# Altium schematic symbol library tianxiaohua_Schlib.SchLib: 133 symbols
Pins are listed as number, name and electrical type; pins without a type are passive.

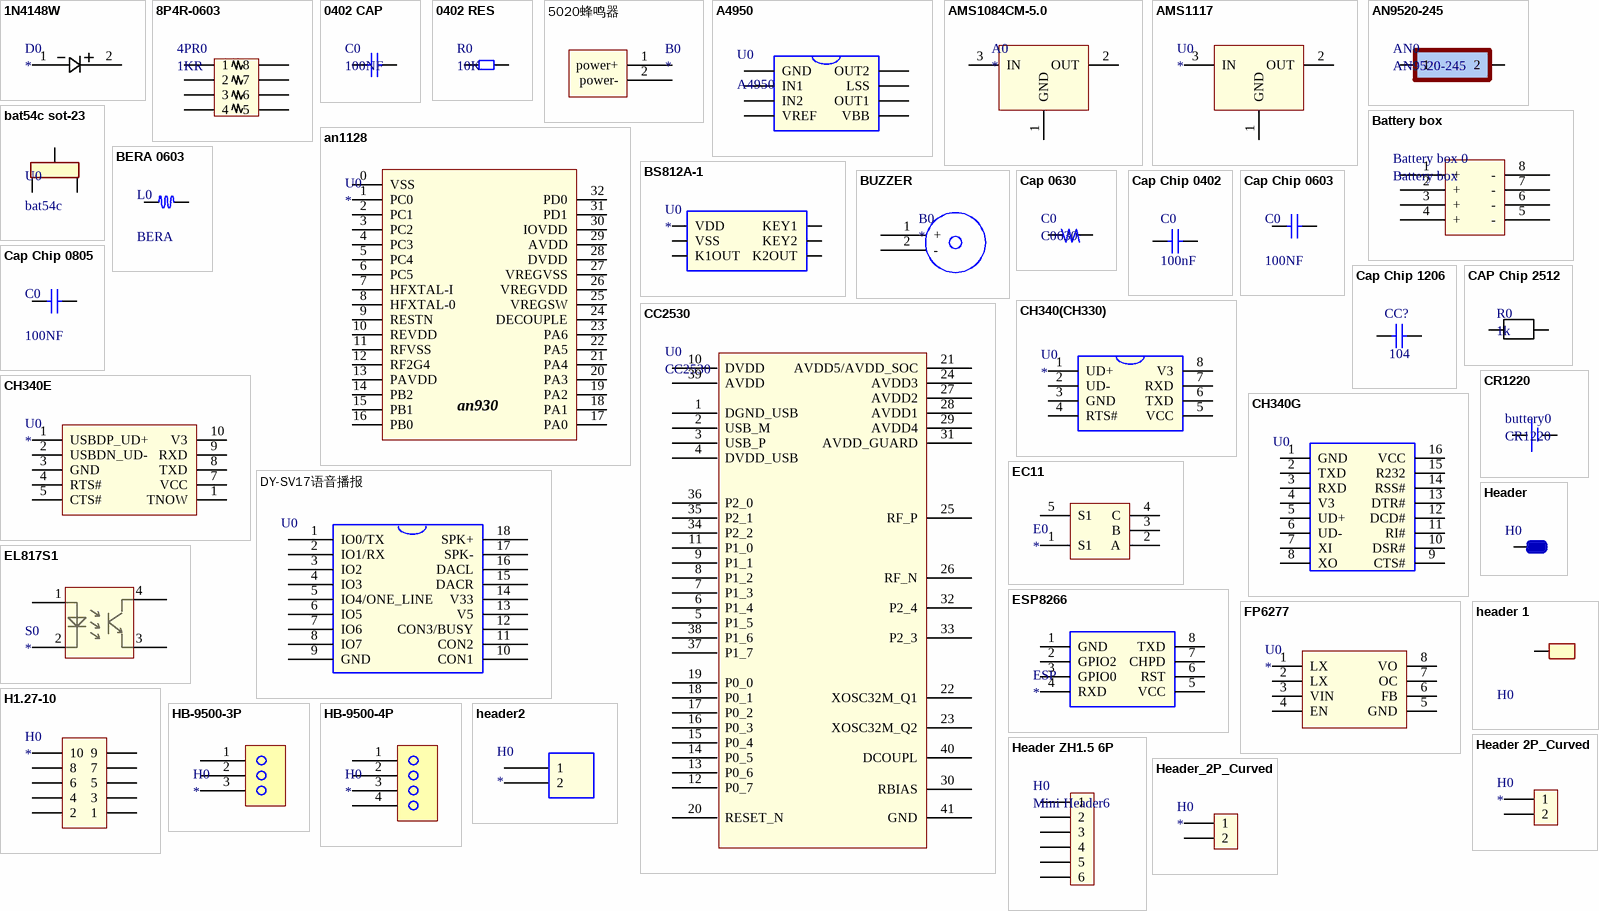
[diagram p0: symbols 1N4148W to Header_2P_Curved]

## 1N4148W
designator D0
开关二极管 贴片 1N4148W 1206/SOD-123 丝印T4 150MA 75V
footprint SOD-123
pins: 1, 2

## 8P4R-0603
designator 4PR0, comment 1KR
footprint 8P4R-0603
pins: 1, 2, 3, 4, 5, 6, 7, 8

## 0402 CAP
designator C0, comment 100NF
footprint 0402Capacitor
pins: 1, 2

## 0402 RES
designator R0, comment 10K
footprint 0402resistor
pins: 1, 2

## 5020蜂鸣器
designator B0
蜂鸣器，贴片封装，长宽5.2mm
footprint 5020蜂鸣器 (蜂鸣器 贴片封装)
footprint Model Name (Footprint not found)
pins: 1 power+, 2 power-

## A4950
designator U0
footprint SOIC-8
pins: 1 GND, 2 IN1, 3 IN2, 4 VREF, 5 VBB, 6 OUT1, 7 LSS, 8 OUT2

## AMS1084CM-5.0
designator A0
footprint TO-263-3
pins: 1 GND, 2 OUT, 3 IN

## AMS1117
designator U0
降压3.3V
footprint SOT-223
pins: 1 GND, 2 OUT, 3 IN

## an1128
designator U0
迷你封装蓝牙芯片
footprint QFN32-4*4
pins: 0 VSS, 1 PC0, 2 PC1, 3 PC2, 4 PC3, 5 PC4, 6 PC5, 7 HFXTAL-I, 8 HFXTAL-0, 9 RESTN, 10 REVDD, 11 RFVSS, 12 RF2G4, 13 PAVDD, 14 PB2, 15 PB1, 16 PB0, 17 PA0, 18 PA1, 19 PA2, 20 PA3, 21 PA4, 22 PA5, 23 PA6, 24 DECOUPLE, 25 VREGSW, 26 VREGVDD, 27 VREGVSS, 28 DVDD, 29 AVDD, 30 IOVDD, 31 PD1, 32 PD0
text: an930

## AN9520-245
designator AN0
2.4G全向天线 蓝牙天线 陶瓷贴片 WIFI内置
footprint AN9520-245
footprint AN-5120
pins: 1, 2

## bat54c sot-23
designator U0, comment bat54c
footprint SOT-23 SI2302
pins: 1, 2, 3

## Battery box
designator Battery box 0
footprint Battery box  4 (可以容纳4节18650电池)
pins: 1 +, 2 +, 3 +, 4 +, 5 -, 6 -, 7 -, 8 -

## BERA 0603
designator L0, comment BERA
磁珠电感; Published: 8-Jun-2000; Revision: July-2002: Re-released for DXP Platform.; Publisher: Altium Limited
footprint BEAD (0R电感)
pins: 1, 2

## BS812A-1
designator U0
触摸按键 两路 SOP23-6封装极简电路
footprint SOT23-6
pins: 1 VDD, 2 VSS, 3 K1OUT, 4 K2OUT, 5 KEY2, 6 KEY1

## BUZZER
designator B0
蜂鸣器 0905 直径9毫米，高度5毫米
footprint Buzzer (蜂鸣器 型号0905 直径9毫米，高度5.5毫米)
pins: 1 +, 2 -

## Cap 0630
designator C0, comment C0630
贴片大电感长7宽6.6
footprint 0630
pins: 1, 2

## Cap Chip 0402
designator C0, comment 100nF
0402封装电容; Published: 8-Jun-2000; Revision: July-2002: Re-released for DXP Platform.; Publisher: Altium Limited
footprint CC1005-0402
pins: 1, 2

## Cap Chip 0603
designator C0, comment 100NF
0603封装的电容; Published: 8-Jun-2000; Revision: July-2002: Re-released for DXP Platform.; Publisher: Altium Limited
footprint CC1608-0603
pins: 1, 2

## Cap Chip 0805
designator C0, comment 100NF
0805封装的电容; Published: 8-Jun-2000; Revision: July-2002: Re-released for DXP Platform.; Publisher: Altium Limited
footprint CC2012-0805
pins: 1, 2

## Cap Chip 1206
designator CC?  value 104  (hidden comment: Cap Chip 1206)
Polarized Capacitor (Radial); Published: 8-Jun-2000; Revision: July-2002: Re-released for DXP Platform.; Publisher: Altium Limited
footprint CC3216-1206
pins: 1, 2

## CAP Chip 2512
designator R0, comment 1k
footprint Cap Chip 2512
pins: 1, 2

## CC2530
designator U0
Zigbee
footprint QLP40 (Reflow)
pins: 1 DGND_USB, 2 USB_M, 3 USB_P, 4 DVDD_USB, 5 P1_5, 6 P1_4, 7 P1_3, 8 P1_2, 9 P1_1, 10 DVDD, 11 P1_0, 12 P0_7, 13 P0_6, 14 P0_5, 15 P0_4, 16 P0_3, 17 P0_2, 18 P0_1, 19 P0_0, 20 RESET_N, 21 AVDD5/AVDD_SOC, 22 XOSC32M_Q1, 23 XOSC32M_Q2, 24 AVDD3, 25 RF_P, 26 RF_N, 27 AVDD2, 28 AVDD1, 29 AVDD4, 30 RBIAS, 31  AVDD_GUARD, 32 P2_4, 33 P2_3, 34 P2_2, 35 P2_1, 36 P2_0, 37 P1_7, 38 P1_6, 39 AVDD, 40 DCOUPL, 41 GND

## CH340(CH330)
designator U0
USB转串口rs232的芯片，内置晶振
footprint SOP8
pins: 1 UD+, 2 UD-, 3 GND, 4 RTS#, 5 VCC, 6 TXD, 7 RXD, 8 V3

## CH340E
designator U0
usd转串口芯片 MSOP10封装
footprint MSOP-10
pins: 1 USBDP_UD+, 1 TNOW, 2 USBDN_UD-, 3 GND, 4 RTS#, 5 CTS#, 7 VCC, 8 TXD, 9 RXD, 10 V3

## CH340G
designator U0  (value not drawn)
串口转USB
footprint SOP16
pins: 1 GND, 2 TXD, 3 RXD, 4 V3, 5 UD+, 6 UD-, 7 XI, 8 XO, 9 CTS#, 10 DSR#, 11 RI#, 12 DCD#, 13 DTR#, 14 RSS#, 15 R232, 16 VCC

## CR1220
designator buttery0
纽扣电池
footprint CR1220-buttery
pins: 1, 2

## DY-SV17语音播报
designator U0
footprint DY-SV17F
pins: 1 IO0/TX, 2 IO1/RX, 3 IO2, 4 IO3, 5 IO4/ONE_LINE, 6 IO5, 7 IO6, 8 IO7, 9 GND, 10 CON1, 11 CON2, 12 CON3/BUSY, 13 V5, 14 V33, 15 DACR, 16 DACL, 17 SPK-, 18 SPK+

## EC11
designator E0
旋转编码器 开关/EC11/数字电位器
footprint EC11
footprint Model Name (Footprint not found)
pins: 1 S1, 2 A, 3 B, 4 C, 5 S1

## EL817S1
designator S0
光耦隔离 兼容PC817
footprint EL817S1
pins: 1, 2, 3, 4

## ESP8266
designator ESP
footprint DIP8
pins: 1 GND, 2 GPIO2, 3 GPIO0, 4 RXD, 5 VCC, 6 RST, 7 CHPD, 8 TXD

## FP6277
designator U0
3A升压IC
footprint SOP8L
pins: 1 LX "电源输出", 2 LX, 3 VIN, 4 EN, 5 GND, 6 FB, 7 OC, 8 VO

## H1.27-10
designator H0
间距为1.27的排针
footprint H1.27
pins: 1, 2, 3, 4, 5, 6, 7, 8, 9, 10

## HB-9500-3P
designator H0
栅栏式接线端子 带盖 9.5MM
footprint HB-9500 9.5MM
pins: 1, 2, 3

## HB-9500-4P
designator H0
栅栏式接线端子 带盖 9.5MM
footprint HB-9500-4P 9.5MM (接线端子，间距9.4毫米，4个接口)
pins: 1, 2, 3, 4

## Header
designator H0  (value not drawn)
footprint Header (设置其他的引出端口)
pins: 1

## header2
designator H0
footprint header2
pins: 1, 2

## header 1
designator H0, comment H0  (value not drawn)
footprint header 1
pins: 1

## Header 2P_Curved
designator H0
弯的2P排针
footprint Header_2_54_2PW (弯的排针)
pins: 1, 2

## Header ZH1.5 6P
designator H0, comment Mini Header6
footprint ZH 1.5
pins: 1, 2, 3, 4, 5, 6

## Header_2P_Curved
designator H0
弯的2P排针
footprint Header_2_54_2PW (弯的排针)
pins: 1, 2

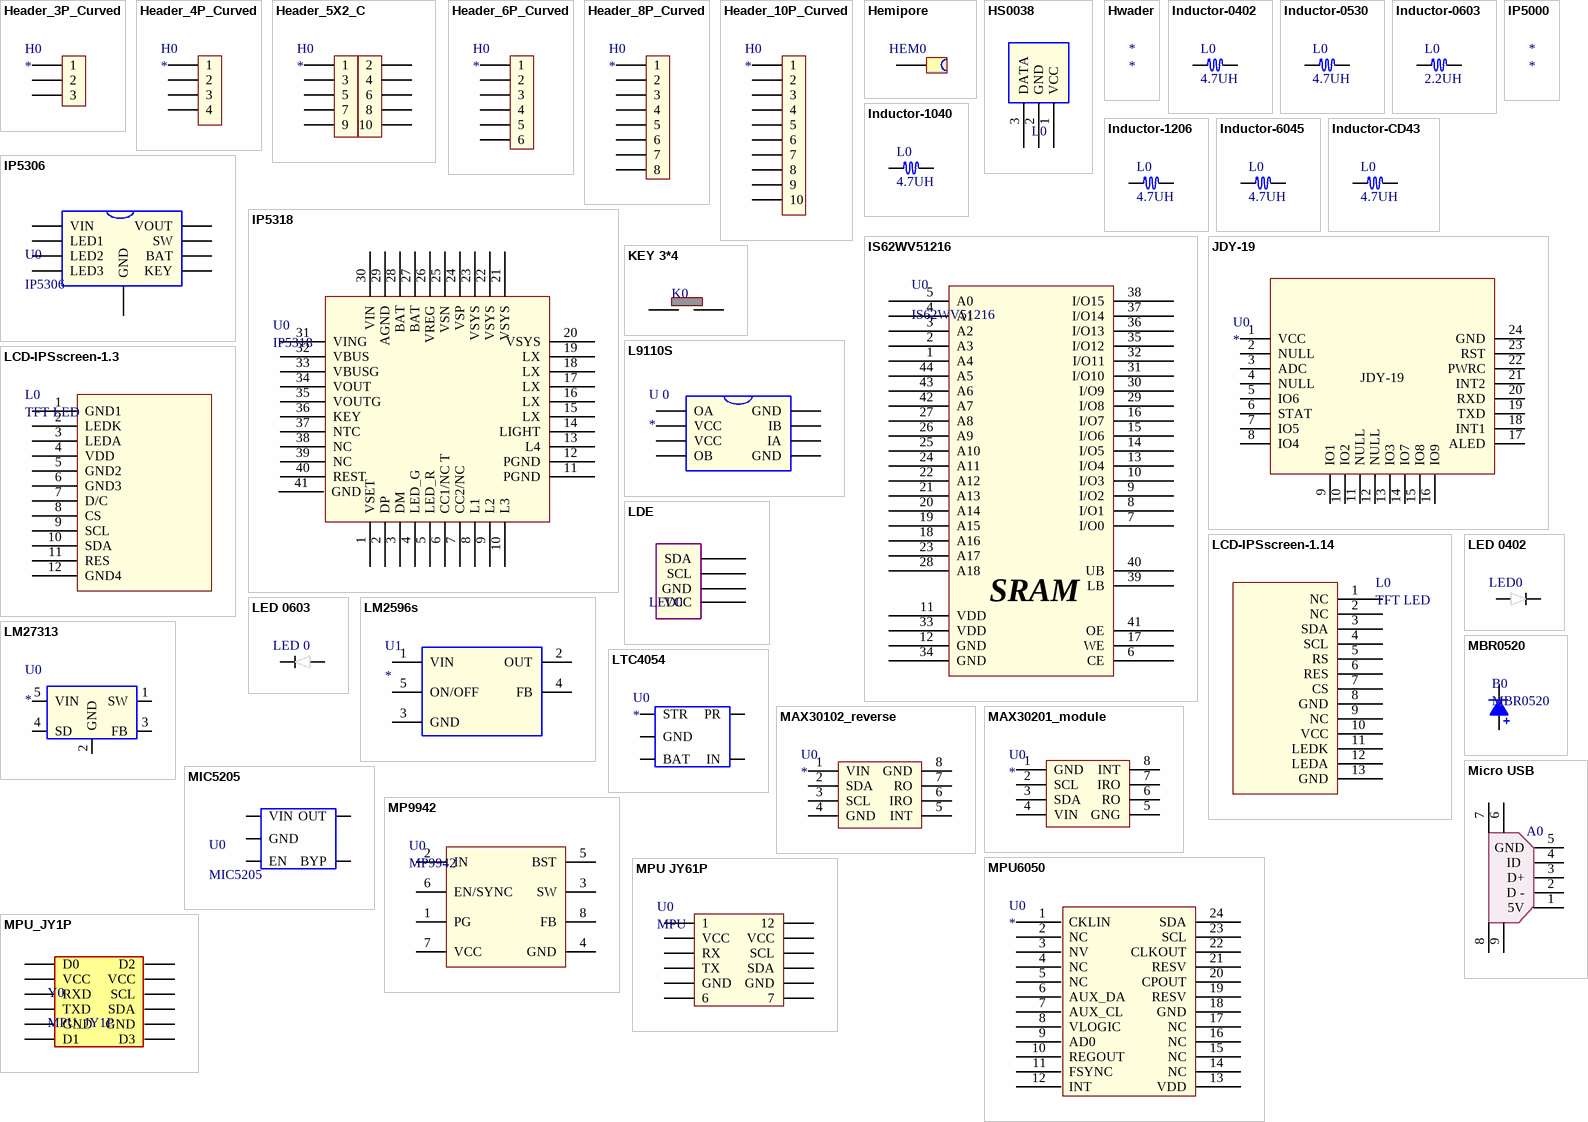
[diagram p1: symbols Header_3P_Curved to MPU_JY1P]

## Header_3P_Curved
designator H0
弯的3P排针
footprint Header_2_54_3PW (3P弯针)
pins: 1, 2, 3

## Header_4P_Curved
designator H0
弯的4P排针
footprint Header_2_54_4PW (3P弯针)
pins: 1, 2, 3, 4

## Header_5X2_C
designator H0
双排2*5弯排针
footprint Header_10_for_zigbee
pins: 1, 2, 3, 4, 5, 6, 7, 8, 9, 10

## Header_6P_Curved
designator H0
弯的6P排针
footprint Header_2_54_6PW (6P弯针)
pins: 1, 2, 3, 4, 5, 6

## Header_8P_Curved
designator H0
弯的8P排针
footprint Header_2_54_8PW (弯的排针)
pins: 1, 2, 3, 4, 5, 6, 7, 8

## Header_10P_Curved
designator H0
弯的10P排针
footprint Header_2_54_8PW (弯的排针)
pins: 1, 2, 3, 4, 5, 6, 7, 8, 9, 10

## Hemipore
designator HEM0  (value not drawn)
半孔（邮票孔）
footprint Hemipore (半孔(邮票孔))
footprint Hemipore-N (半孔(邮票孔))
pins: 1

## HS0038
designator L0  (value not drawn)
红外线接收传感器
pins: 1 VCC, 2 GND, 3 DATA

## Hwader
designator *

## Inductor-0402
designator L0, comment 4.7UH
0402封装的电感
footprint Inductor-0402
pins: 1, 2

## Inductor-0530
designator L0, comment 4.7UH
0530一体成型贴片功率电感
footprint 0530 (电感)
pins: 1, 2

## Inductor-0603
designator L0, comment 2.2UH
贴片电感 0603封装
footprint Inductor-0603
pins: 1, 2

## Inductor-1040
designator L0, comment 4.7UH
1040封装 一体成型 贴片 功率电感
footprint Inductor-1040
pins: 1, 2

## Inductor-1206
designator L0, comment 4.7UH
贴片电感 1206封装
footprint INDUCTOR-1206 (电感)
pins: 1, 2

## Inductor-6045
designator L0, comment 4.7UH
6045封装 线绕SMD功率电感
footprint Inductor-6045 (电感)
pins: 1, 2

## Inductor-CD43 
designator L0, comment 4.7UH
CD43 绕线片式功率电感
footprint CD43
pins: 1, 2

## IP5000
designator *

## IP5306
designator U0
2A的锂电池充电ic,同时具有升压5V输出的功能
footprint ESOP8
pins: 1 VIN, 2 LED1, 3 LED2, 4 LED3, 5 KEY, 6 BAT, 7 SW, 8 VOUT, 9 GND

## IP5318
designator U0
4.8A 充电、18W 放电、集成输入输出快充功能移动电源 SOC
footprint QFN40
pins: 1 VSET, 2 DP, 3 DM, 4 LED_G, 5 LED_R, 6 CC1/NC T, 7 CC2/NC, 8 L1, 9 L2, 10 L3, 11 PGND, 12 PGND, 13 L4, 14 LIGHT, 15 LX, 16 LX, 17 LX, 18 LX, 19 LX, 20 VSYS, 21 VSYS, 22 VSYS, 23 VSYS, 24 VSP, 25 VSN, 26 VREG, 27 BAT, 28 BAT, 29 AGND, 30 VIN, 31 VING, 32 VBUS, 33 VBUSG, 34 VOUT, 35 VOUTG, 36 KEY, 37 NTC, 38 NC, 39 NC, 40 REST, 41 GND

## IS62WV51216
designator U0
SRAM
footprint TSOP44_M
footprint TSOP-l
pins: 1 A4, 2 A3, 3 A2, 4 A1, 5 A0, 6 CE, 7 I/O0, 8 I/O1, 9 I/O2, 10 I/O3, 11 VDD, 12 GND, 13 I/O4, 14 I/O5, 15 I/O6, 16 I/O7, 17 WE, 18 A16, 19 A15, 20 A14, 21 A13, 22 A12, 23 A17, 24 A11, 25 A10, 26 A9, 27 A8, 28 A18, 29 I/O8, 30 I/O9, 31 I/O10, 32 I/O11, 33 VDD, 34 GND, 35 I/O12, 36 I/O13, 37 I/O14, 38 I/O15, 39 LB, 40 UB, 41 OE, 42 A7, 43 A6, 44 A5

## JDY-19
designator U0
超低功耗蓝牙 4.2 BLE 模块
footprint JDY-19
pins: 1 VCC, 2 NULL, 3 ADC, 4 NULL, 5 IO6, 6 STAT, 7 IO5, 8 IO4, 9 IO1, 10 IO2, 11 NULL, 12 NULL, 13 IO3, 14 IO7, 15 IO8, 16 IO9, 17 ALED, 18 INT1, 19 TXD, 20 RXD, 21 INT2, 22 PWRC, 23 RST, 24 GND

## KEY 3*4
designator K0  (value not drawn)
轻触开关按键
footprint KEY 3*4
footprint 2*4*3.5 KEY (非常小的贴片卧式按键)
pins: 1, 2

## L9110S
designator U 0
直流电机驱动
footprint SOP8
pins: 1 OA, 2 VCC, 3 VCC, 4 OB, 5 GND, 6 IA, 7 IB, 8 GND

## LCD-IPSscreen-1.3
designator L0, comment TFT LED
1.3寸显示屏幕
footprint LCD-1.3-(2)
pins: 1 GND1, 2 LEDK, 3 LEDA, 4 VDD, 5 GND2, 6 GND3, 7 D/C, 8 CS, 9 SCL, 10 SDA, 11 RES, 12 GND4

## LCD-IPSscreen-1.14
designator L0, comment TFT LED
1.14寸显示屏幕
footprint LCD-1.14IPS (1.14寸IPS-LCD裸屏SPI接口)
footprint LCD-1.14IPS-(2)
pins: 1 NC, 2 NC, 3 SDA, 4 SCL, 5 RS, 6 RES, 7 CS, 8 GND, 9 NC, 10 VCC, 11 LEDK, 12 LEDA, 13 GND

## LDE
designator LED0  (value not drawn)
footprint LED
pins: 1 SDA, 2 SCL, 3 GND, 4 VCC

## LED 0402
designator LED0
footprint 0402 LED
pins: 1, 2

## LED 0603
designator LED 0  (value not drawn)
footprint LED 0603
pins: 1, 2

## LM2596s
designator U1
footprint DDPAK
pins: 1 VIN, 2 OUT, 3 GND, 4 FB, 5 ON/OFF

## LM27313
designator U0
footprint SOT23-5 (适用于MIC5205)
pins: 1 SW, 2 GND, 3 FB, 4 SD, 5 VIN

## LTC4054
designator U0
锂电池充电智能控制芯片
footprint SOT23-5 (适用于MIC5205)
pins: 1 STR, 2 GND, 3 BAT, 4 IN, 5 PR

## MAX30102_reverse
designator U0
心率血氧传感器模块，反着的封装形式
footprint MAX30102 (血氧传感器模块)
pins: 1 VIN, 2 SDA, 3 SCL, 4 GND, 5 INT, 6 IRO, 7 RO, 8 GND

## MAX30201_module
designator U0
美信半导体的心率血氧传感器
footprint MAX30201_module (血氧传感器模块)
pins: 1 GND, 2 SCL, 3 SDA, 4 VIN, 5 GNG, 6 RO, 7 IRO, 8 INT

## MBR0520
designator B0
贴片肖特基二极管
footprint SOD 123 (适合MBR2050)
pins: 1, 2

## MIC5205
designator U0
3.3V降压稳压芯片
footprint SOT23-5 (适用于MIC5205)
pins: 1 VIN, 2 GND, 3 EN, 4 BYP, 5 OUT

## Micro USB
designator A0  (value not drawn)
迷你usb接口
footprint Micro USB
footprint Micro usb AB
pins: 1 5V, 2 D -, 3 D+, 4 ID , 5 GND, 6, 7, 8, 9

## MP9942
designator U0
降压稳压IC，36V降压至3.3V，支持2A大电流
footprint TSOT23-8
pins: 1 PG, 2 IN, 3 SW, 4 GND, 5 BST, 6 EN/SYNC, 7 VCC, 8 FB

## MPU6050
designator U0
陀螺仪
footprint QFN24 - duplicate
pins: 1 CKLIN, 2 NC, 3 NV, 4 NC, 5 NC, 6 AUX_DA, 7 AUX_CL, 8 VLOGIC, 9 AD0, 10 REGOUT, 11 FSYNC, 12 INT, 13 VDD, 14 NC, 15 NC, 16 NC, 17 NC, 18 GND, 19 RESV, 20 CPOUT, 21 RESV, 22 CLKOUT, 23 SCL, 24 SDA

## MPU JY61P
designator U0, comment MPU
footprint MPU JY61P
footprint MPU JY61P(2)
pins: 1, 2 VCC, 3 RX, 4 TX, 5 GND, 6, 7, 8 GND, 9 SDA, 10 SCL, 11 VCC, 12

## MPU_JY1P
designator Y0
footprint MPU_JY1P
pins: 1 D0, 2 VCC, 3 RXD, 4 TXD, 5 GND, 6 D1, 7 D3, 8 GND, 9 SDA, 10 SCL, 11 VCC, 12 D2

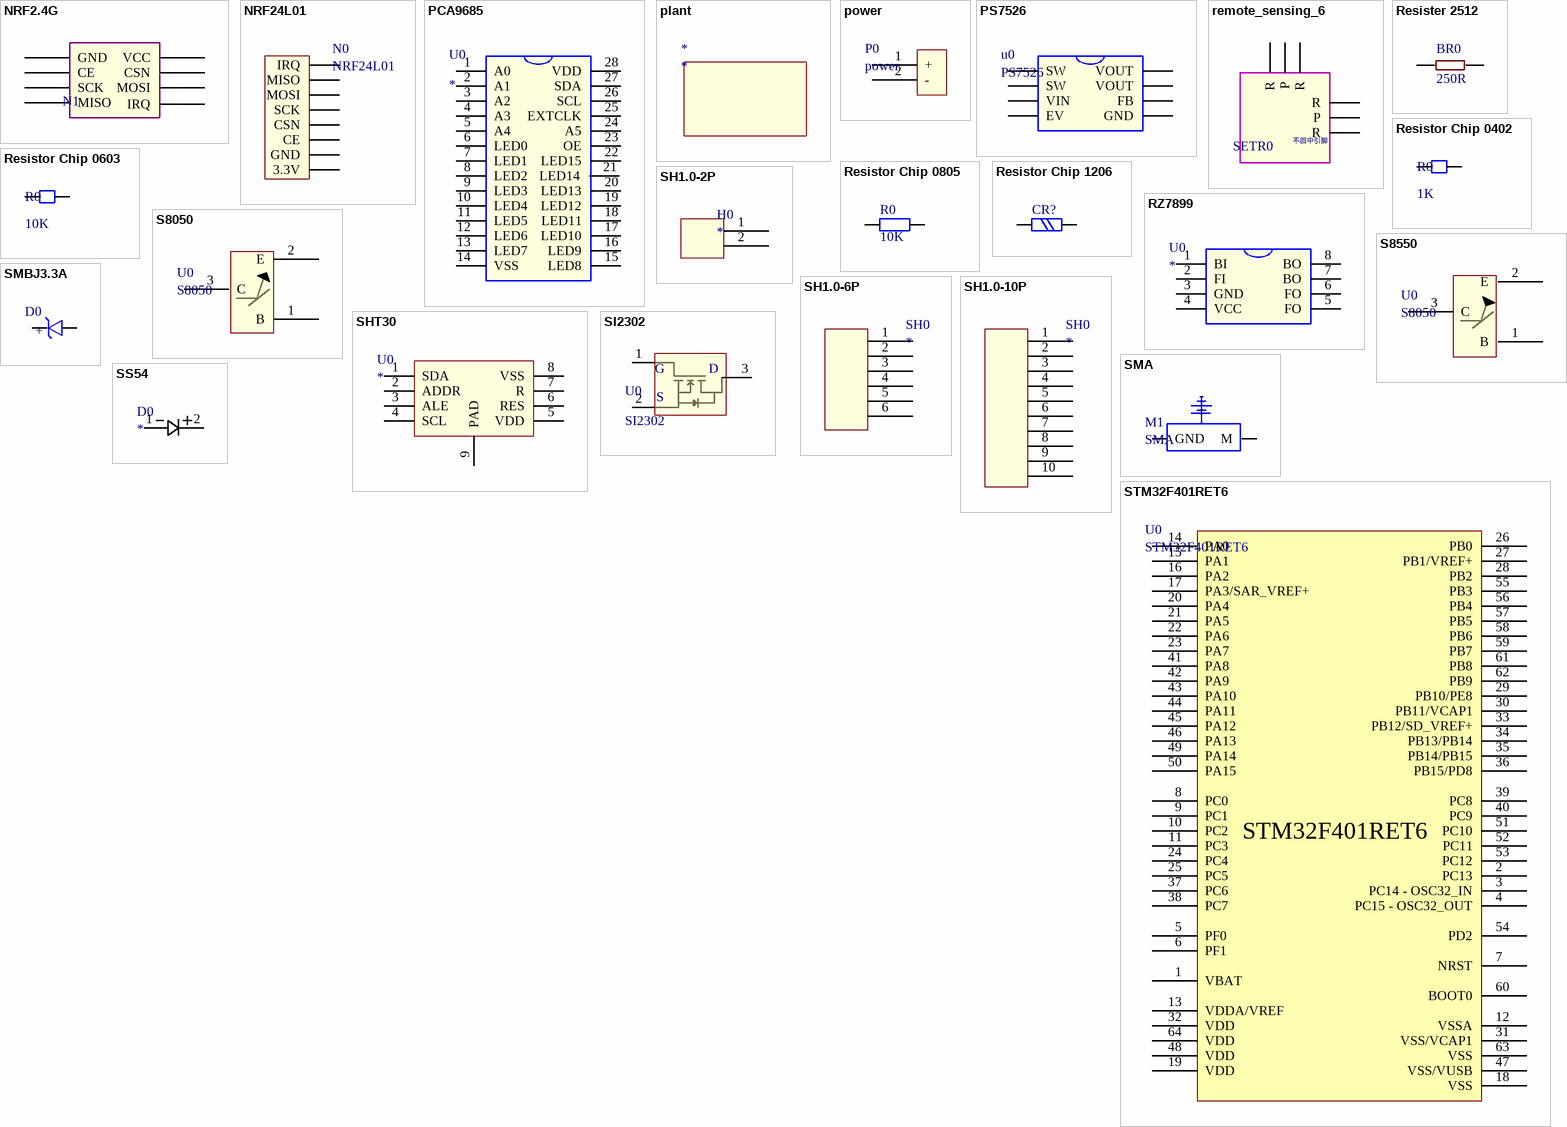
[diagram p2: symbols NRF2.4G to STM32F401RET6]

## NRF2.4G
designator N1  (value not drawn)
footprint NRF2.4G
pins: 1 GND, 2 CE, 3 SCK, 4 MISO, 5 VCC, 6 CSN, 7 MOSI, 8 IRQ

## NRF24L01
designator N0
footprint NRF24L01
pins: 1 3.3V, 2 GND, 3 CE, 4 CSN, 5 SCK, 6 MOSI, 7 MISO, 8 IRQ

## PCA9685
designator U0
footprint PCA9685
pins: 1 A0, 2 A1, 3 A2, 4 A3, 5 A4, 6 LED0, 7 LED1, 8 LED2, 9 LED3, 10 LED4, 11 LED5, 12 LED6, 13 LED7, 14 VSS, 15 LED8, 16 LED9, 17 LED10, 18 LED11, 19 LED12, 20 LED13, 21 LED14, 22 LED15, 23 OE, 24 A5, 25 EXTCLK, 26 SCL, 27 SDA, 28 VDD

## plant
designator *
footprint plant (美少女)

## power
designator P0
footprint power-5V
footprint POWER-3.7V
footprint POWER
pins: 1 +, 2 -

## PS7526
designator u0
3.7V升压输出5V2A/2.4A，(3V,3.3V.3.7V升压输出5V2A/2.4A，PS7526超高效率的同步整流升压方案。实际应用足2.4A。)PS7526超高效率的同步整流升压方案。实际应用足2.4A。
footprint ESOP8
pins: 1 SW, 2 SW, 3 VIN, 4 EV, 5 GND, 6 FB, 7 VOUT, 8 VOUT

## remote_sensing_6
designator SETR0  (value not drawn)
footprint remote_sensing_6
pins: 1 R, 2 P, 3 R, 4 R, 5 P, 6 R
text: 不回中引脚

## Resister 2512
designator BR0, comment 250R
footprint Resister 2512
pins: 0, 1

## Resistor Chip 0402
designator R0, comment 1K
0402封装的电阻; Published: 8-Jun-2000; Revision: July-2002: Re-released for DXP Platform.; Publisher: Altium Limited
footprint CR1005-0402
pins: 1, 2
1 alternate drawing of the same symbol

## Resistor Chip 0603
designator R0, comment 10K
电阻; Published: 8-Jun-2000; Revision: July-2002: Re-released for DXP Platform.; Publisher: Altium Limited
footprint CR1608-0603
pins: 1, 2
1 alternate drawing of the same symbol

## Resistor Chip 0805
designator R0, comment 10K
Resistor; Published: 8-Jun-2000; Revision: July-2002: Re-released for DXP Platform.; Publisher: Altium Limited
3D model R0805 (PCB3D Model)
footprint CR2012-0805
pins: 1, 2
1 alternate drawing of the same symbol

## Resistor Chip 1206
designator CR?  (value not drawn)
Resistor; Published: 8-Jun-2000; Revision: July-2002: Re-released for DXP Platform.; Publisher: Altium Limited
3D model R1206 (PCB3D Model)
footprint CR3216-1206
pins: 1, 2
1 alternate drawing of the same symbol

## RZ7899
designator U0
电机驱动:输入支持3V-25V，输出支持6A
footprint SOP8
pins: 1 BI, 2 FI, 3 GND, 4 VCC, 5 FO, 6 FO, 7 BO, 8 BO

## S8050
designator U0
三极管放大管 NPN型三极管 大电流300ma
footprint SOT-23 SI2302
pins: 1 B, 2 E, 3 C

## S8550
designator U0, comment S8050
三极管放大管 PNP型三极管 大电流300ma
footprint SOT-23 SI2302
pins: 1 B, 2 E, 3 C

## SH1.0-2P
designator H0
footprint SH1.0-2P
pins: 1, 2

## SH1.0-6P
designator SH0
间距为1mm的端子
footprint SH1.0-6P
pins: 1, 2, 3, 4, 5, 6

## SH1.0-10P
designator SH0
footprint SH1.0-10P
pins: 1, 2, 3, 4, 5, 6, 7, 8, 9, 10

## SHT30
designator U0
温湿度传感器
footprint SHT3X-DIS
pins: 1 SDA, 2 ADDR, 3 ALE, 4 SCL, 5 VDD, 6 RES, 7 R, 8 VSS, 9 PAD

## SI2302
designator U0
NMOS场效应MOS管 SOT-23
footprint SOT-23 SI2302
pins: 1 GATE, 2 SOURCE, 3 DRAIN
text: G; D; S

## SMA
designator M1
天线
footprint SMA-KE (偏头天线坐)
footprint SMA-KWE (弯头天线坐)
pins: 1 M, 2 GND

## SMBJ3.3A
designator D0  (value not drawn)
3.3V稳压管，缓解瞬间电压冲击
footprint DO214AA(SMB) (稳压管)
pins: 1, 2
text: +

## SS54
designator D0
大电流肖特基二极管，5A/40V
footprint DO-214AC(SMA)
pins: 1, 2

## STM32F401RET6
designator U0
单片机
footprint STM-LQFNP64
pins: 1 VBAT, 2 PC13, 3 PC14 - OSC32_IN, 4 PC15 - OSC32_OUT, 5 PF0, 6 PF1, 7 NRST, 8 PC0, 9 PC1, 10 PC2, 11 PC3, 12 VSSA, 13 VDDA/VREF, 14 PA0, 15 PA1, 16 PA2, 17 PA3/SAR_VREF+, 18 VSS, 19 VDD, 20 PA4, 21 PA5, 22 PA6, 23 PA7, 24 PC4, 25 PC5, 26 PB0, 27 PB1/VREF+, 28 PB2, 29 PB10/PE8, 30 PB11/VCAP1, 31 VSS/VCAP1, 32 VDD, 33 PB12/SD_VREF+, 34 PB13/PB14, 35 PB14/PB15, 36 PB15/PD8, 37 PC6, 38 PC7, 39 PC8, 40 PC9, 41 PA8, 42 PA9, 43 PA10, 44 PA11, 45 PA12, 46 PA13, 47 VSS/VUSB, 48 VDD, 49 PA14, 50 PA15, 51 PC10, 52 PC11, 53 PC12, 54 PD2, 55 PB3, 56 PB4, 57 PB5, 58 PB6, 59 PB7, 60 BOOT0, 61 PB8, 62 PB9, 63 VSS, 64 VDD

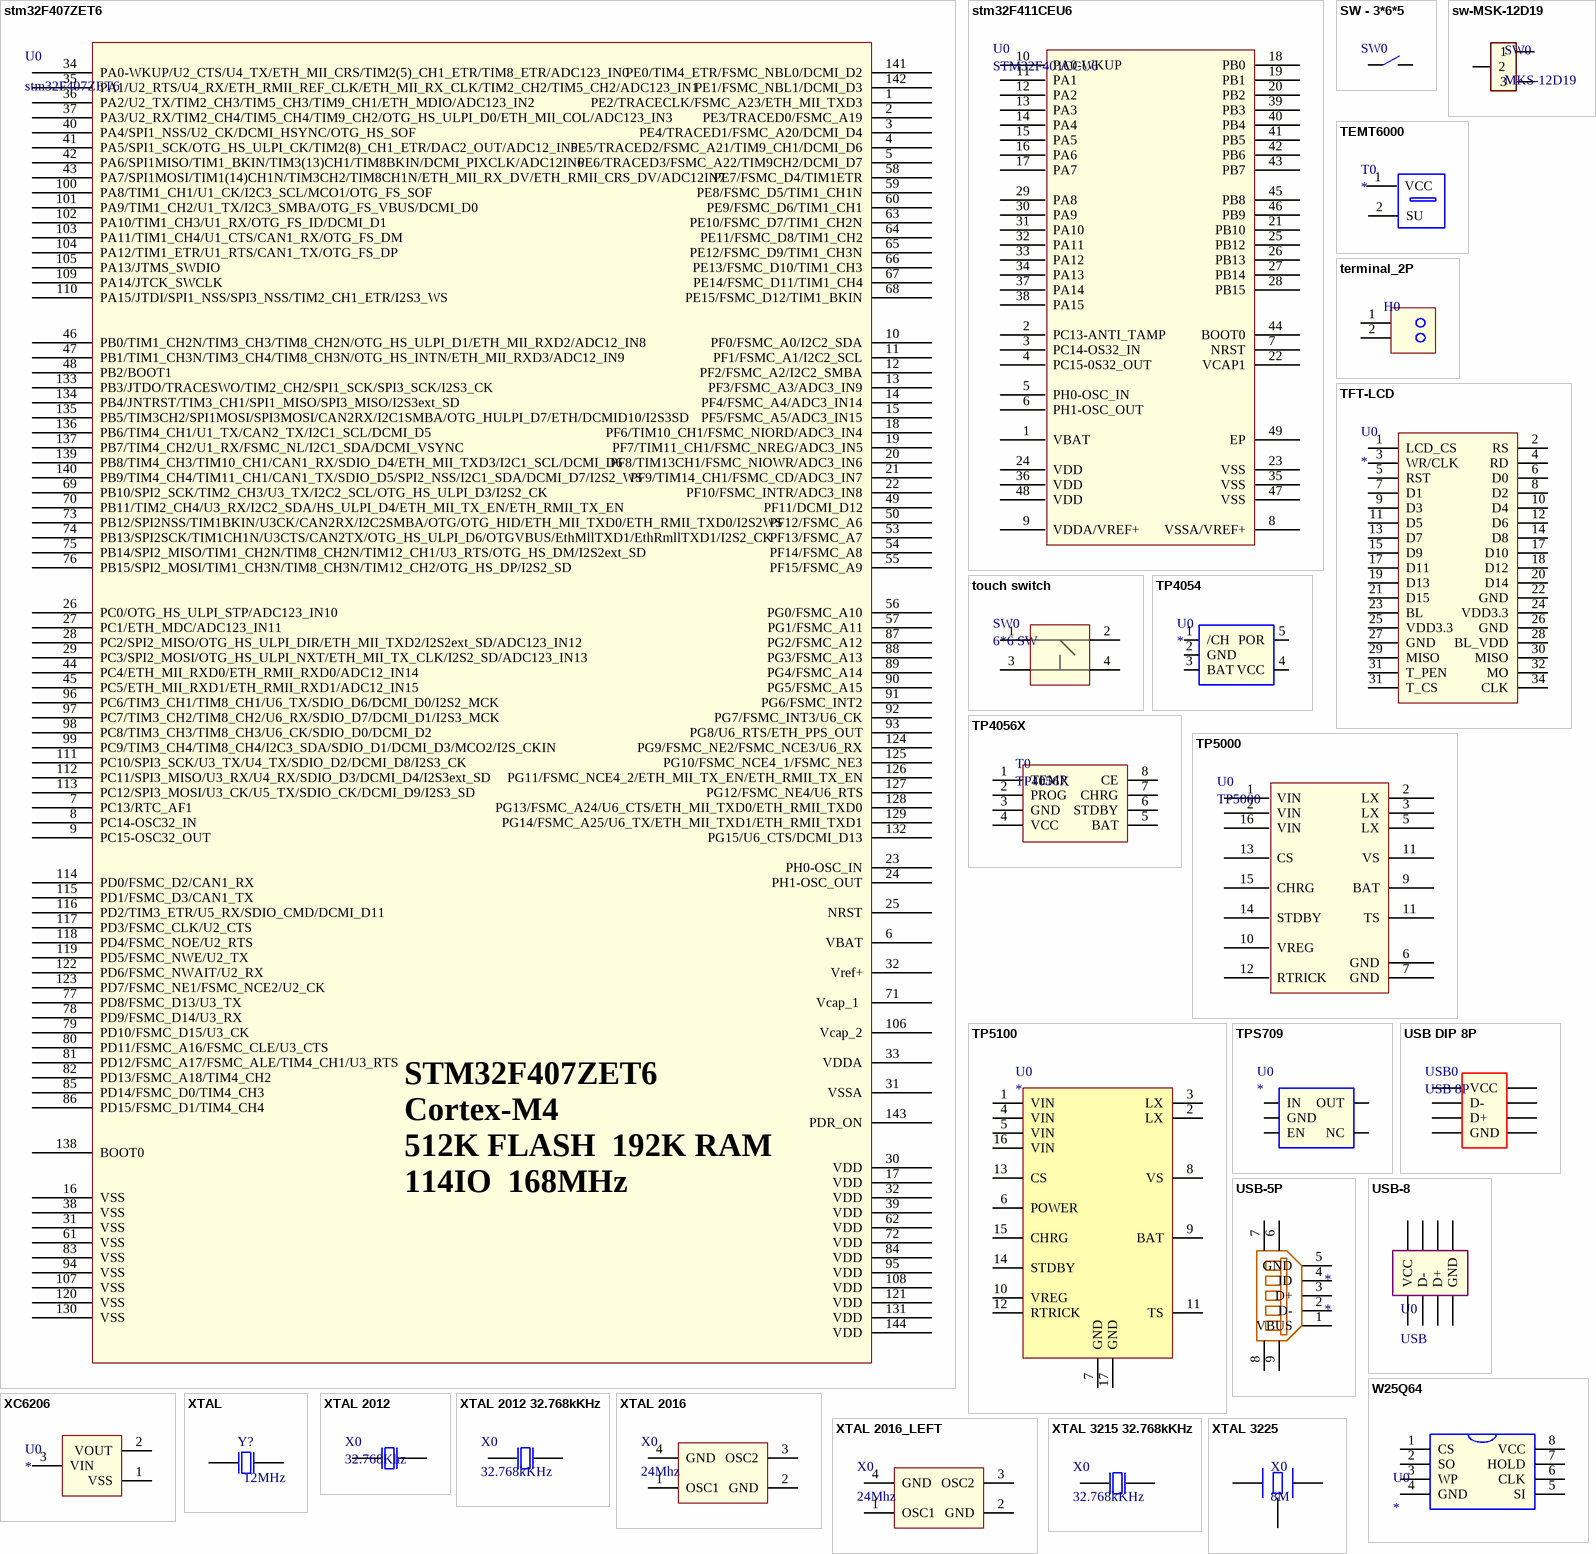
[diagram p3: symbols stm32F407ZET6 to XTAL 3225]

## stm32F407ZET6
designator U0
footprint STM-LQFP144 (Thin QFP, 144-Leads, Body 20x20mm, Pitch 0.5mm, IPC Low Density)
footprint STM-LQFP144_M (Thin QFP, 144-Leads, Body 20x20mm, Pitch 0.5mm, IPC Low Density)
pins: 1 PE2/TRACECLK/FSMC_A23/ETH_MII_TXD3, 2 PE3/TRACED0/FSMC_A19, 3 PE4/TRACED1/FSMC_A20/DCMI_D4, 4 PE5/TRACED2/FSMC_A21/TIM9_CH1/DCMI_D6, 5 PE6/TRACED3/FSMC_A22/TIM9CH2/DCMI_D7, 6 VBAT, 7 PC13/RTC_AF1, 8 PC14-OSC32_IN, 9 PC15-OSC32_OUT, 10 PF0/FSMC_A0/I2C2_SDA, 11 PF1/FSMC_A1/I2C2_SCL, 12 PF2/FSMC_A2/I2C2_SMBA, 13 PF3/FSMC_A3/ADC3_IN9, 14 PF4/FSMC_A4/ADC3_IN14, 15 PF5/FSMC_A5/ADC3_IN15, 16 VSS, 17 VDD, 18 PF6/TIM10_CH1/FSMC_NIORD/ADC3_IN4, 19 PF7/TIM11_CH1/FSMC_NREG/ADC3_IN5, 20 PF8/TIM13CH1/FSMC_NIOWR/ADC3_IN6, 21 PF9/TIM14_CH1/FSMC_CD/ADC3_IN7, 22 PF10/FSMC_INTR/ADC3_IN8, 23 PH0-OSC_IN, 24 PH1-OSC_OUT, 25 NRST, 26 PC0/OTG_HS_ULPI_STP/ADC123_IN10, 27 PC1/ETH_MDC/ADC123_IN11, 28 PC2/SPI2_MISO/OTG_HS_ULPI_DIR/ETH_MII_TXD2/I2S2ext_SD/ADC123_IN12, 29 PC3/SPI2_MOSI/OTG_HS_ULPI_NXT/ETH_MII_TX_CLK/I2S2_SD/ADC123_IN13, 30 VDD, 31 VSS, 31 VSSA, 32 VDD, 32 Vref+, 33 VDDA, 34 PA0-WKUP/U2_CTS/U4_TX/ETH_MII_CRS/TIM2(5)_CH1_ETR/TIM8_ETR/ADC123_IN0 "PA0", 35 PA1/U2_RTS/U4_RX/ETH_RMII_REF_CLK/ETH_MII_RX_CLK/TIM2_CH2/TIM5_CH2/ADC123_IN1, 36 PA2/U2_TX/TIM2_CH3/TIM5_CH3/TIM9_CH1/ETH_MDIO/ADC123_IN2, 37 PA3/U2_RX/TIM2_CH4/TIM5_CH4/TIM9_CH2/OTG_HS_ULPI_D0/ETH_MII_COL/ADC123_IN3, 38 VSS, 39 VDD, 40 PA4/SPI1_NSS/U2_CK/DCMI_HSYNC/OTG_HS_SOF, 41 PA5/SPI1_SCK/OTG_HS_ULPI_CK/TIM2(8)_CH1_ETR/DAC2_OUT/ADC12_IN5, 42 PA6/SPI1MISO/TIM1_BKIN/TIM3(13)CH1/TIM8BKIN/DCMI_PIXCLK/ADC12IN6, 43 PA7/SPI1MOSI/TIM1(14)CH1N/TIM3CH2/TIM8CH1N/ETH_MII_RX_DV/ETH_RMII_CRS_DV/ADC12IN7, 44 PC4/ETH_MII_RXD0/ETH_RMII_RXD0/ADC12_IN14, 45 PC5/ETH_MII_RXD1/ETH_RMII_RXD1/ADC12_IN15, 46 PB0/TIM1_CH2N/TIM3_CH3/TIM8_CH2N/OTG_HS_ULPI_D1/ETH_MII_RXD2/ADC12_IN8, 47 PB1/TIM1_CH3N/TIM3_CH4/TIM8_CH3N/OTG_HS_INTN/ETH_MII_RXD3/ADC12_IN9, 48 PB2/BOOT1, 49 PF11/DCMI_D12, 50 PF12/FSMC_A6, 53 PF13/FSMC_A7, 54 PF14/FSMC_A8, 55 PF15/FSMC_A9, 56 PG0/FSMC_A10, 57 PG1/FSMC_A11, 58 PE7/FSMC_D4/TIM1ETR, 59 PE8/FSMC_D5/TIM1_CH1N, 60 PE9/FSMC_D6/TIM1_CH1, 61 VSS, 62 VDD, 63 PE10/FSMC_D7/TIM1_CH2N, 64 PE11/FSMC_D8/TIM1_CH2, 65 PE12/FSMC_D9/TIM1_CH3N, 66 PE13/FSMC_D10/TIM1_CH3, 67 PE14/FSMC_D11/TIM1_CH4, 68 PE15/FSMC_D12/TIM1_BKIN, 69 PB10/SPI2_SCK/TIM2_CH3/U3_TX/I2C2_SCL/OTG_HS_ULPI_D3/I2S2_CK, 70 PB11/TIM2_CH4/U3_RX/I2C2_SDA/HS_ULPI_D4/ETH_MII_TX_EN/ETH_RMII_TX_EN, 71 Vcap_1 , 72 VDD, 73 PB12/SPI2NSS/TIM1BKIN/U3CK/CAN2RX/I2C2SMBA/OTG/OTG_HID/ETH_MII_TXD0/ETH_RMII_TXD0/I2S2WS, 74 PB13/SPI2SCK/TIM1CH1N/U3CTS/CAN2TX/OTG_HS_ULPI_D6/OTGVBUS/EthMllTXD1/EthRmllTXD1/I2S2_CK, 75 PB14/SPI2_MISO/TIM1_CH2N/TIM8_CH2N/TIM12_CH1/U3_RTS/OTG_HS_DM/I2S2ext_SD, 76 PB15/SPI2_MOSI/TIM1_CH3N/TIM8_CH3N/TIM12_CH2/OTG_HS_DP/I2S2_SD, 77 PD8/FSMC_D13/U3_TX, 78 PD9/FSMC_D14/U3_RX, 79 PD10/FSMC_D15/U3_CK, 80 PD11/FSMC_A16/FSMC_CLE/U3_CTS, 81 PD12/FSMC_A17/FSMC_ALE/TIM4_CH1/U3_RTS, 82 PD13/FSMC_A18/TIM4_CH2, 83 VSS, 84 VDD, 85 PD14/FSMC_D0/TIM4_CH3, 86 PD15/FSMC_D1/TIM4_CH4, 87 PG2/FSMC_A12, 88 PG3/FSMC_A13, 89 PG4/FSMC_A14, 90 PG5/FSMC_A15, 91 PG6/FSMC_INT2, 92 PG7/FSMC_INT3/U6_CK, 93 PG8/U6_RTS/ETH_PPS_OUT, 94 VSS, 95 VDD, 96 PC6/TIM3_CH1/TIM8_CH1/U6_TX/SDIO_D6/DCMI_D0/I2S2_MCK, 97 PC7/TIM3_CH2/TIM8_CH2/U6_RX/SDIO_D7/DCMI_D1/I2S3_MCK, 98 PC8/TIM3_CH3/TIM8_CH3/U6_CK/SDIO_D0/DCMI_D2, 99 PC9/TIM3_CH4/TIM8_CH4/I2C3_SDA/SDIO_D1/DCMI_D3/MCO2/I2S_CKIN, 100 PA8/TIM1_CH1/U1_CK/I2C3_SCL/MCO1/OTG_FS_SOF, 101 PA9/TIM1_CH2/U1_TX/I2C3_SMBA/OTG_FS_VBUS/DCMI_D0, 102 PA10/TIM1_CH3/U1_RX/OTG_FS_ID/DCMI_D1, 103 PA11/TIM1_CH4/U1_CTS/CAN1_RX/OTG_FS_DM, 104 PA12/TIM1_ETR/U1_RTS/CAN1_TX/OTG_FS_DP, 105 PA13/JTMS_SWDIO, 106 Vcap_2, 107 VSS, 108 VDD, 109 PA14/JTCK_SWCLK, 110 PA15/JTDI/SPI1_NSS/SPI3_NSS/TIM2_CH1_ETR/I2S3_WS, 111 PC10/SPI3_SCK/U3_TX/U4_TX/SDIO_D2/DCMI_D8/I2S3_CK, 112 PC11/SPI3_MISO/U3_RX/U4_RX/SDIO_D3/DCMI_D4/I2S3ext_SD, 113 PC12/SPI3_MOSI/U3_CK/U5_TX/SDIO_CK/DCMI_D9/I2S3_SD, 114 PD0/FSMC_D2/CAN1_RX, 115 PD1/FSMC_D3/CAN1_TX, 116 PD2/TIM3_ETR/U5_RX/SDIO_CMD/DCMI_D11, 117 PD3/FSMC_CLK/U2_CTS, 118 PD4/FSMC_NOE/U2_RTS, 119 PD5/FSMC_NWE/U2_TX, 120 VSS, 121 VDD, 122 PD6/FSMC_NWAIT/U2_RX, 123 PD7/FSMC_NE1/FSMC_NCE2/U2_CK, 124 PG9/FSMC_NE2/FSMC_NCE3/U6_RX, 125 PG10/FSMC_NCE4_1/FSMC_NE3, 126 PG11/FSMC_NCE4_2/ETH_MII_TX_EN/ETH_RMII_TX_EN, 127 PG12/FSMC_NE4/U6_RTS, 128 PG13/FSMC_A24/U6_CTS/ETH_MII_TXD0/ETH_RMII_TXD0, 129 PG14/FSMC_A25/U6_TX/ETH_MII_TXD1/ETH_RMII_TXD1, 130 VSS, 131 VDD, 132 PG15/U6_CTS/DCMI_D13, 133 PB3/JTDO/TRACESWO/TIM2_CH2/SPI1_SCK/SPI3_SCK/I2S3_CK, 134 PB4/JNTRST/TIM3_CH1/SPI1_MISO/SPI3_MISO/I2S3ext_SD, 135 PB5/TIM3CH2/SPI1MOSI/SPI3MOSI/CAN2RX/I2C1SMBA/OTG_HULPI_D7/ETH/DCMID10/I2S3SD, 136 PB6/TIM4_CH1/U1_TX/CAN2_TX/I2C1_SCL/DCMI_D5, 137 PB7/TIM4_CH2/U1_RX/FSMC_NL/I2C1_SDA/DCMI_VSYNC, 138 BOOT0, 139 PB8/TIM4_CH3/TIM10_CH1/CAN1_RX/SDIO_D4/ETH_MII_TXD3/I2C1_SCL/DCMI_D6, 140 PB9/TIM4_CH4/TIM11_CH1/CAN1_TX/SDIO_D5/SPI2_NSS/I2C1_SDA/DCMI_D7/I2S2_WS, 141 PE0/TIM4_ETR/FSMC_NBL0/DCMI_D2, 142 PE1/FSMC_NBL1/DCMI_D3, 143 PDR_ON, 144 VDD
text: STM32F407ZET6 / Cortex-M4 / 512K FLASH  192K RAM / 114IO  168MHz /

## stm32F411CEU6
designator U0, comment STM32F401CCU6
stm32单片机 主频100MHz
footprint STM32-UFQFPN48_N (QFN, 48-Leads, Body 7.1x7.1mm, Pitch 0.5mm, Thermal Pad 5.6x5.6mm, IPC Medium Density)
pins: 1 VBAT, 2 PC13-ANTI_TAMP, 3 PC14-OS32_IN, 4 PC15-0S32_OUT, 5 PH0-OSC_IN, 6 PH1-OSC_OUT, 7 NRST, 8 VSSA/VREF+, 9 VDDA/VREF+, 10 PA0-WKUP, 11 PA1, 12 PA2, 13 PA3, 14 PA4, 15 PA5, 16 PA6, 17 PA7, 18 PB0, 19 PB1, 20 PB2, 21 PB10, 22 VCAP1, 23 VSS, 24 VDD, 25 PB12, 26 PB13, 27 PB14, 28 PB15, 29 PA8, 30 PA9, 31 PA10, 32 PA11, 33 PA12, 34 PA13, 35 VSS, 36 VDD, 37 PA14, 38 PA15, 39 PB3, 40 PB4, 41 PB5, 42 PB6, 43 PB7, 44 BOOT0, 45 PB8, 46 PB9, 47 VSS, 48 VDD, 49 EP

## SW - 3*6*5
designator SW0
footprint SW - 3*6*5
pins: 1, 2

## sw-MSK-12D19
designator SW0, comment MKS-12D19
footprint SW  MKS 12D19
footprint SW  MSK-02 (拨动开关)
pins: 1, 2, 3

## TEMT6000
designator T0
环境光照强度传感器，封装型号为1206
footprint TEMT6000 1206 (环境光强传感器)
pins: 1 VCC, 2 SU

## terminal_2P
designator H0  (value not drawn)
接线螺丝端子
footprint terminal_5.0 (螺丝接线端子)
pins: 1, 2

## TFT-LCD
designator U0
正点原子开发板屏幕接口
footprint DIP34
pins: 1 LCD_CS, 2 RS, 3 WR/CLK, 4 RD, 5 RST, 6 D0, 7 D1, 8 D2, 9 D3, 10 D4, 11 D5, 12 D6, 13 D7, 14 D8, 15 D9, 17 D11, 17 D10, 18 D12, 19 D13, 20 D14, 21 D15, 22 GND, 23 BL, 24 VDD3.3, 25 VDD3.3, 26 GND, 27 GND, 28 BL_VDD, 29 MISO, 30 MISO, 31 T_PEN, 31 T_CS, 32 MO, 34 CLK

## touch switch
designator SW0, comment 6*6 SW
轻触按键 贴片 常见的6*6规格
footprint SOP4
pins: 1, 2, 3, 4

## TP4054
designator U0
迷你充电IC SOT-23-5
footprint SOT23-5 (适用于MIC5205)
pins: 1 /CH, 2 GND, 3 BAT, 4 VCC, 5 POR

## TP4056X
designator T0
1A充电IC
footprint ESOP8
pins: 1 TEMP, 2 PROG, 3 GND, 4 VCC, 5 BAT, 6 STDBY, 7 CHRG, 8 CE

## TP5000
designator U0
迷你2A升压充电IC
footprint QFN-16
pins: 1 VIN, 2 VIN, 2 LX, 3 LX, 5 LX, 6 GND, 7 GND, 9 BAT, 10 VREG, 11 VS, 11 TS, 12 RTRICK, 13 CS, 14 STDBY, 15 CHRG, 16 VIN

## TP5100
designator U0
锂电池充电芯片QFN16封装，最大充电电流2A
footprint QFN-16
pins: 1 VIN, 2 LX, 3 LX, 4 VIN, 5 VIN, 6 POWER, 7 GND, 8 VS, 9 BAT, 10 VREG, 11 TS, 12 RTRICK, 13 CS, 14 STDBY, 15 CHRG, 16 VIN, 17 GND

## TPS709
designator U0
3.3V降压IC SOT23-5封装 最大输出150ma电流
footprint SOT23-5 (适用于MIC5205)
pins: 1 IN, 2 GND, 3 EN, 4 NC, 5 OUT

## USB DIP 8P
designator USB0, comment USB 8P
footprint USB DIP 8
pins: 1 VCC, 2 D-, 3 D+, 4 GND, 5, 6, 7, 8

## USB-5P
designator *
pins: 1 VBUS, 2 D-, 3 D+, 4 ID, 5 GND, 6 GND, 7 GND, 8 GND, 9 GND

## USB-8
designator U0, comment USB
双层设计的usb接口
footprint USB-8
pins: 1 VCC, 2 D-, 3 D+, 4 GND, 5, 6, 7, 8

## W25Q64
designator U0
内存达8M的flash
footprint SOP8
pins: 1 CS, 2 SO, 3 WP, 4 GND, 5 SI, 6 CLK, 7 HOLD, 8 VCC

## XC6206
designator U0
2.5V降压IC SOT-23封装
footprint SOT-23 SI2302
pins: 1 VSS, 2 VOUT, 3 VIN

## XTAL
designator Y?  Frequency: 12MHz  (hidden comment: XTAL)
Crystal Oscillator; Published: 8-Jun-2000; Revision: July-2002: Re-released for DXP Platform.; Publisher: Altium Limited
footprint XTAL-Cylinder (柱式晶振)
footprint XTAL (卧式安装)
footprint XTAL-49/U_N (高型晶振（未加焊）)
footprint XTAL-PINGBI (Footprint not found)
footprint XTAL-SMD
footprint XTAL-1 (卧式安装)
footprint XTAL-2 (卧式安装)
pins: 1 OSC1, 2 OSC2

## XTAL 2012
designator X0, comment 32.768Khz
2012封装的时钟晶振
footprint XTAL-2012
pins: 1, 2

## XTAL 2012 32.768kKHz
designator X0, comment 32.768kKHz
2012封装的时钟晶振
footprint XTAL-2012
pins: 1 OSC1, 2 OSC2

## XTAL 2016
designator X0, comment 24Mhz
2016封装的晶振
footprint XTAL-2016 (缺的角在右边)
pins: 1 OSC1, 2 GND, 3 OSC2, 4 GND

## XTAL 2016_LEFT
designator X0, comment 24Mhz
2016封装的晶振
footprint XTAL-2016-Lift (缺的角在左边)
pins: 1 OSC1, 2 GND, 3 OSC2, 4 GND

## XTAL 3215 32.768kKHz
designator X0, comment 32.768kKHz
3215封装的时钟晶振
footprint XTAL-3215
pins: 1 OSC1, 2 OSC2

## XTAL 3225
designator X0, comment 8M
3225封装的晶振
footprint XTAL-3225
pins: 1 OSC1, 2 GND, 3 OSC2

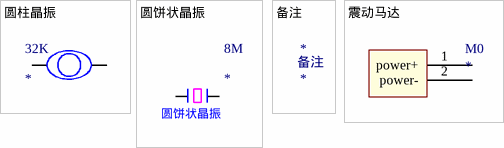
[diagram p4: symbols 圆柱晶振 to 震动马达]

## 圆柱晶振
designator 32K
footprint 32K晶振
pins: 1, 2

## 圆饼状晶振
designator 8M
footprint 8M晶振
pins: 1, 2

## 备注
designator *
footprint 备注

## 震动马达
designator M0
震动马达，贴片封装的适合穿戴的迷你产品
footprint 0827 (震动马达高度2.7，直径8mm)
pins: 1 power+, 2 power-